# EAGLE library part MM74HC154WM (library Fairchild_By_element14_Batch_1)
4-to-16 Line Decoder
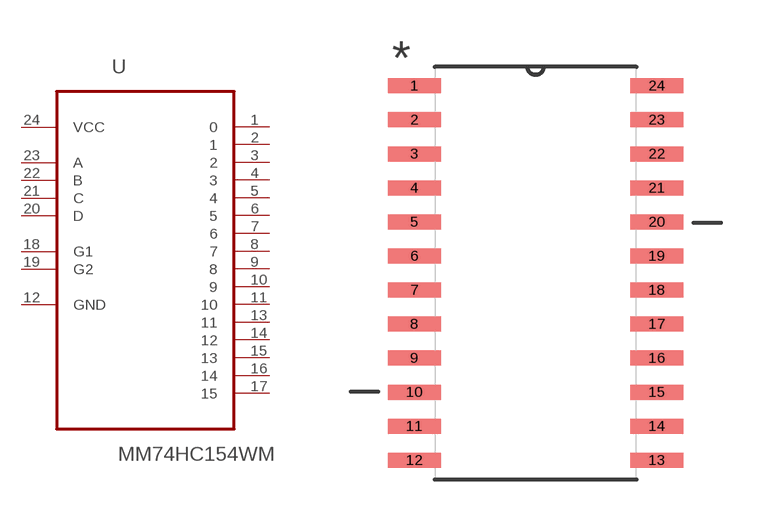
[diagram p253: symbol with the pads of SOIC127P1032X265-24N; footprint SOIC127P1032X265-24N]

Designator prefix U

## MM74HC154WM (MPN: MM74HC154WM; OC_FARNELL: -; OC_NEWARK: 78K6066; PACKAGE: SOIC-24; SUPPLIER: FAIRCHILD SEMICONDUCTOR)  [SOIC127P1032X265-24N]
1  0  out
2  1  out
3  2  out
4  3  out
5  4  out
6  5  out
7  6  out
8  7  out
9  8  out
10  9  out
11  10  out
12  GND  pas
13  11  out
14  12  out
15  13  out
16  14  out
17  15  out
18  G1  in
19  G2  in
20  D  in
21  C  in
22  B  in
23  A  in
24  VCC  pwr

## Footprint SOIC127P1032X265-24N (pad centres in mm)
smd 1.981 x 0.559: 1 -4.521,6.985; 2 -4.521,5.715; 3 -4.521,4.445; 4 -4.521,3.175; 5 -4.521,1.905; 6 -4.521,0.635; 7 -4.521,-0.635; 8 -4.521,-1.905; 9 -4.521,-3.175; 10 -4.521,-4.445; 11 -4.521,-5.715; 12 -4.521,-6.985; 13 4.521,-6.985; 14 4.521,-5.715; 15 4.521,-4.445; 16 4.521,-3.175; 17 4.521,-1.905; 18 4.521,-0.635; 19 4.521,0.635; 20 4.521,1.905; 21 4.521,3.175; 22 4.521,4.445; 23 4.521,5.715; 24 4.521,6.985